# Altium footprint library electronpowered.PcbLib: 83 footprints (part 3 of 6)
Each footprint in its own frame and in the unit in brackets; x right, y up, seen from the top. Pads: shape width x height; smd on the part's side, far side on the other; paste and mask are expansions set on the pad; w line width, h text height; cw(c..) or ccw(c..) is an arc to the next point about the centre after c.
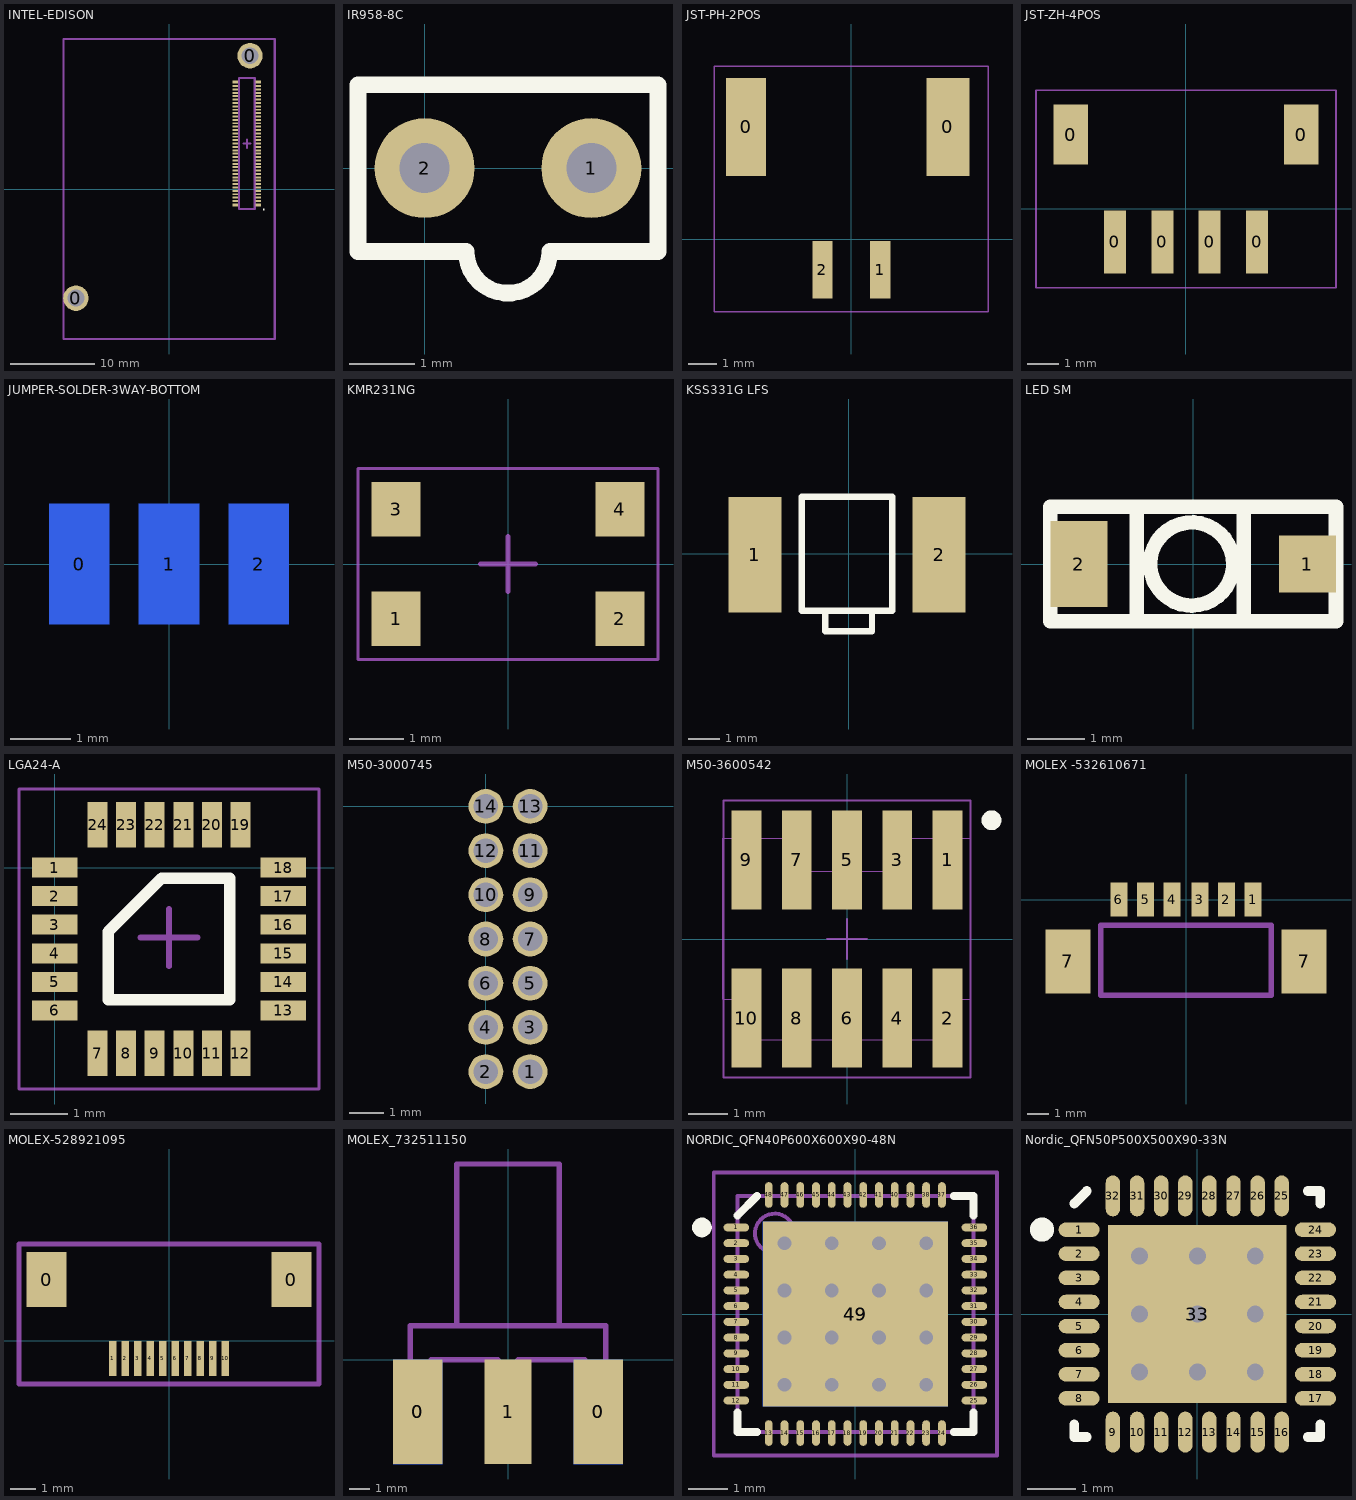
[diagram p2: the footprints below, top view; thin cyan lines are the x and y axes]

## INTEL-EDISON [mm] "Intel Edison SBC"
height 5
pads (76):
  round 3 hole 2: 0(-11.03,-12.92) 0(9.57,15.77)
  rect 0.66x0.23 smd: 1(10.555,-1.42) 2(7.845,-1.42) 3(10.555,-1.02) 4(7.845,-1.02) 5(10.555,-0.62) 6(7.845,-0.62) 7(10.555,-0.22) 8(7.845,-0.22) 9(10.555,0.18) 10(7.845,0.18) 11(10.555,0.58) 12(7.845,0.58) 13(10.555,0.98) 14(7.845,0.98) 15(10.555,1.38) 16(7.845,1.38) 17(10.555,1.78) 18(7.845,1.78) 19(10.555,2.18) 20(7.845,2.18) 21(10.555,2.58) 22(7.845,2.58) 23(10.555,2.98) 24(7.845,2.98) 25(10.555,3.38) 26(7.845,3.38) 27(10.555,3.78) 28(7.845,3.78) 29(10.555,4.18) 30(7.845,4.18) 31(10.555,4.58) 32(7.845,4.58) 33(10.555,4.98) 34(7.845,4.98) 35(10.555,5.38) 36(7.845,5.38) 37(10.555,5.78) 38(7.845,5.78) 39(10.555,6.18) 40(7.845,6.18) 41(10.555,6.58) 42(7.845,6.58) 43(10.555,6.98) 44(7.845,6.98) 45(10.555,7.38) 46(7.845,7.38) 47(10.555,7.78) 48(7.845,7.78) 49(10.555,8.18) 50(7.845,8.18) 51(10.555,8.58) 52(7.845,8.58) 53(10.555,8.98) 54(7.845,8.98) 55(10.555,9.38) 56(7.845,9.38) 57(10.555,9.78) 58(7.845,9.78) 59(10.555,10.18) 60(7.845,10.18) 61(10.555,10.58) 62(7.845,10.58) 63(10.555,10.98) 64(7.845,10.98) 65(10.555,11.38) 66(7.845,11.38) 67(10.555,11.78) 68(7.845,11.78) 69(10.555,12.18) 70(7.845,12.18)
  rect 0.66x0.35 smd: ""(7.845,-1.895) ""(7.845,12.655) ""(10.555,-1.895) ""(10.555,12.655)
Top Overlay:
  circle w0.1: c11.2,-2.42 r0.05
Drill Guide:
  rectangle: 6.72,-17.75 12.5,-4.64
Top Comp Body:
  lines w0.254: -12.5,-17.75 12.5,-17.75 12.5,17.75 -12.5,17.75 -12.5,-17.75 ; 8.275,-2.38 8.275,13.14 10.125,13.14 10.125,-2.38 8.275,-2.38
Top Courtyard:
  lines w0.254: 8.8,5.38 9.2,5.38 ; 9.2,4.86 9.2,5.38 ; 9.2,5.86 9.2,5.38 ; 9.6,5.38 9.2,5.38
3D body "DF40C(2.0)-70DS.stp": height 1.9, standoff -0.05, extent 7.51,-2.935 10.89,13.665

## IR958-8C [mil]
height 230
pads (2):
  round 60 hole 30: 1(100,0) 2(0,0)
Top Overlay:
  lines w10: -40,-50 -40,50 50,50 140,50 140,-50 75,-50 cw(c50,-50) 25,-50 -40,-50

## JST-PH-2POS [mm] "JST-PH 2POS SM R/A 2.0mm"
pads (4):
  rect 1.4x3.4 smd: 0(-3.65,3.9)
  rect 1.5x3.4 smd: 0(3.35,3.9)
  rect 0.7x2 smd: 1(1,-1.05) 2(-1,-1.05)
Top Courtyard:
  lines w0.05: -4.75,-2.5 -4.75,6 4.75,6 4.75,-2.5 -4.75,-2.5

## JST-ZH-4POS [mm] "JST 4POS SM R/A 1.5mm"
pads (6):
  rect 1.1x1.9 smd: 0(-3.65,2.35) 0(3.65,2.35)
  rect 0.7x2 smd: 0(-2.25,-1.05) 0(-0.75,-1.05) 0(0.75,-1.05) 0(2.25,-1.05)
Top Courtyard:
  lines w0.05: -4.75,-2.5 4.75,-2.5 4.75,3.75 -4.75,3.75 -4.75,-2.5

## JUMPER-SOLDER-3WAY-BOTTOM [mm] "3WAY SOLDER JUMPER BOTTOM LAYER"
pads (3):
  rect 1x2 smd far side: 0(-1.5,0) 1(0,0) 2(1.5,0)
Bottom Overlay:
  lines w0.254: -2.5,-1.5 -2.5,1.5 2.5,1.5 2.5,-1.5 -2.5,-1.5

## KMR231NG [mm] "PB SW SM TOP"
height 1.9
pads (4):
  rect 0.9x1 smd: 1(-2.05,-1) 2(2.05,-1) 3(-2.05,1) 4(2.05,1)
Top Courtyard:
  lines w0.05: -2.75,-1.75 2.75,-1.75 2.75,1.75 -2.75,1.75 -2.75,-1.75
  lines w0.1: -0.5,0 0.5,0 ; 0,-0.5 0,0.5

## KSS331G LFS [mm] "C & K COMPONENTS - KSS331G LFS - TACT SWITCH, SIDE ACTUATED, LOW"
pads (2):
  rect 1.7x3.7 smd: 1(-3,-0.025) 2(2.9,-0.025)
Top Overlay:
  lines w0.2: -0.75,-1.825 -0.75,-2.475 0.75,-2.475 0.75,-1.825 ; -1.5,-1.825 -1.5,1.825 1.4,1.825 1.4,-1.825 -1.5,-1.825

## LED SM [mm]
pads (2):
  rect 1x1 smd: 1(2,0)
  rect 1x1.5 smd: 2(-2,0)
Top Overlay:
  lines w0.254: -0.991,1 -0.991,-1 0.864,-1 0.889,-0.975 0.889,1 ; -0.099,-0.724 cw(c-0.025,0) -0.025,-0.728 ; -2.5,-1 -2.5,1 2.5,1 2.5,-1 -2.5,-1
3D body: height 4, standoff 0, extent -0.498,-0.49 0.498,0.508
3D body: height 2.65, standoff 0, extent -1.524,-1.016 1.397,1.016

## LGA24-A [mm]
pads (24):
  rect 0.8x0.35 smd mask+0.051: 1(0,0) 2(0,-0.5) 3(0,-1) 4(0,-1.5) 5(0,-2) 6(0,-2.5) 13(4,-2.5) 14(4,-2) 15(4,-1.5) 16(4,-1)
  rect 0.35x0.8 smd mask+0.051: 7(0.75,-3.25) 8(1.25,-3.25) 9(1.75,-3.25) 10(2.25,-3.25) 11(2.75,-3.25) 12(3.25,-3.25) 19(3.25,0.75) 20(2.75,0.75) 21(2.25,0.75) 22(1.75,0.75) 23(1.25,0.75) 24(0.75,0.75)
  rect 0.8x0.35 smd paste+0 mask+0.051: 17(4,-0.5) 18(4,0)
Top Overlay:
  lines w0.2: 0.935,-2.315 3.065,-2.315 3.065,-0.185 1.87,-0.185 0.935,-1.12 0.935,-2.315
Top Courtyard:
  lines w0.05: -0.625,-3.875 4.625,-3.875 4.625,1.375 -0.625,1.375 -0.625,-3.875
  lines w0.1: 1.5,-1.225 2.5,-1.225 ; 2,-1.725 2,-0.725

## M50-3000745 [mm] "14 POS 1.27MM TH SKT/HDR"
pads (14):
  round 1 hole 0.7: 1(1.27,-7.62) 2(0,-7.62) 3(1.27,-6.35) 4(0,-6.35) 5(1.27,-5.08) 6(0,-5.08) 7(1.27,-3.81) 8(0,-3.81) 9(1.27,-2.54) 10(0,-2.54) 11(1.27,-1.27) 12(0,-1.27) 13(1.27,0) 14(0,0)

## M50-3600542 [mm] "1.27mm pitch, 10 pin, terminal strip; vertical, SMT"
height 4
pads (10):
  rect 0.75x2.5 smd mask+0: 1(2.54,2) 2(2.54,-2) 3(1.27,2) 4(1.27,-2) 5(0,2) 6(0,-2) 7(-1.27,2) 8(-1.27,-2) 9(-2.54,2) 10(-2.54,-2)
Top Overlay:
  circle w0.25: c3.65,3 r0.125
Bottom Dimension:
  lines w0.001: -3.137,-1.524 -2.54,-1.524 -2.54,-2.54 2.54,-2.54 2.54,-1.524 3.137,-1.524 3.137,2.54 1.079,2.54 1.079,1.714 -1.079,1.714 -1.079,2.54 -3.137,2.54 -3.137,-1.524
Top Courtyard:
  lines w0.05: -0.5,0 0.5,0 ; 0,-0.5 0,0.5 ; -3.125,-3.5 -3.125,3.5 3.125,3.5 3.125,-3.5 -3.125,-3.5

## MOLEX -532610671 [mm]
pads (8):
  rect 0.8x1.6 smd: 1(3.15,0) 2(1.9,0) 3(0.65,0) 4(-0.65,0) 5(-1.9,0) 6(-3.15,0)
  rect 2.1x3 smd: 7(-5.55,-2.9) 7(5.55,-2.9)
Top Comp Body:
  lines w0.254: -4,-4.5 -4,-1.2 4,-1.2 4,-4.5 -4,-4.5
3D body "532610671.stp": height 3.4, standoff 0, extent -6.325,-4.6 6.325,0.6

## MOLEX-528921095 [mm] "CONN FPC 10POS 0.5MM"
height 2.54
pads (12):
  rect 1.6x2.2 smd: 0(-4.9,2.45) 0(4.9,2.45)
  rect 0.3x1.4 smd: 1(-2.25,-0.7) 2(-1.75,-0.7) 3(-1.25,-0.7) 4(-0.75,-0.7) 5(-0.25,-0.7) 6(0.25,-0.7) 7(0.75,-0.7) 8(1.25,-0.7) 9(1.75,-0.7) 10(2.25,-0.7)
Top Courtyard:
  lines w0.2: -6,-1.725 -6,3.875 6,3.875 6,-1.725 -6,-1.725

## MOLEX_732511150 [mm] "SMA EDGE"
pads (5):
  rect 2.4x5.08 smd: 0(-4.39,-2.54) 0(4.39,-2.54)
  rect 2.4x5.08 smd far side: 0(-4.39,-2.54) 0(4.39,-2.54)
  rect 2.29x5.08 smd: 1(0,-2.54)
Top Comp Body:
  lines w0.254: -2.5,1.68 -2.5,9.53 0,9.53 2.5,9.53 2.5,1.68 ; -4.765,-4.75 -4.765,1.65 4.765,1.65 4.765,-4.75 3.75,-4.75 3.75,0 0.5,0 0.5,-4.5 -0.5,-4.5 -0.5,0 -3.75,0 -3.75,-4.75 -4.765,-4.75

## NORDIC_QFN40P600X600X90-48N [mm] "Nordic QFN 40 pin footprint for nNRF51822"
pads (50):
  oval 0.65x0.2 smd: 1(-3.025,2.2) 2(-3.025,1.8) 3(-3.025,1.4) 4(-3.025,1) 5(-3.025,0.6) 6(-3.025,0.2) 7(-3.025,-0.2) 8(-3.025,-0.6) 9(-3.025,-1) 10(-3.025,-1.4) 11(-3.025,-1.8) 12(-3.025,-2.2) 25(3.025,-2.2) 26(3.025,-1.8) 27(3.025,-1.4) 28(3.025,-1) 29(3.025,-0.6) 30(3.025,-0.2) 31(3.025,0.2) 32(3.025,0.6) 33(3.025,1) 34(3.025,1.4) 35(3.025,1.8) 36(3.025,2.2)
  oval 0.2x0.65 smd: 13(-2.2,-3.025) 14(-1.8,-3.025) 15(-1.4,-3.025) 16(-1,-3.025) 17(-0.6,-3.025) 18(-0.2,-3.025) 19(0.2,-3.025) 20(0.6,-3.025) 21(1,-3.025) 22(1.4,-3.025) 23(1.8,-3.025) 24(2.2,-3.025) 37(2.2,3.025) 38(1.8,3.025) 39(1.4,3.025) 40(1,3.025) 41(0.6,3.025) 42(0.2,3.025) 43(-0.2,3.025) 44(-0.6,3.025) 45(-1,3.025) 46(-1.4,3.025) 47(-1.8,3.025) 48(-2.2,3.025)
  rect 4.7x4.7 smd: 49(0,0)
  rect 4.7x4.7 smd far side: 49(0,0)
via 1.8,-1.8 diameter 0.8 hole 0.35
via 0.6,-1.8 diameter 0.8 hole 0.35
via -0.6,-1.8 diameter 0.8 hole 0.35
via -1.8,-1.8 diameter 0.8 hole 0.35
via 1.8,-0.6 diameter 0.8 hole 0.35
via 0.6,-0.6 diameter 0.8 hole 0.35
via -0.6,-0.6 diameter 0.8 hole 0.35
via -1.8,-0.6 diameter 0.8 hole 0.35
via 1.8,0.6 diameter 0.8 hole 0.35
via 0.6,0.6 diameter 0.8 hole 0.35
via -0.6,0.6 diameter 0.8 hole 0.35
via -1.8,0.6 diameter 0.8 hole 0.35
via 1.8,1.8 diameter 0.8 hole 0.35
via 0.6,1.8 diameter 0.8 hole 0.35
via -0.6,1.8 diameter 0.8 hole 0.35
via -1.8,1.8 diameter 0.8 hole 0.35
Top Overlay:
  circle w0.25: c-3.9,2.2 r0.125
  lines w0.2: -3,-2.5 -3,-3 -2.5,-3 ; -3,2.5 -2.5,3 ; 2.5,-3 3,-3 3,-2.5 ; 2.5,3 3,3 3,2.5
Top Comp Body:
  circle w0.1: c-2.05,2.05 r0.5
  lines w0.1: -3,-3 3,-3 3,3 -3,3 -3,-3
Top Courtyard:
  lines w0.1: -0.5,0 0.5,0 ; 0,-0.5 0,0.5 ; -3.6,-3.6 3.6,-3.6 3.6,3.6 -3.6,3.6 -3.6,-3.6
3D body: height 0.9, standoff 0, extent -3,-3 3,3

## Nordic_QFN50P500X500X90-33N [mm]
pads (33):
  oval 0.85x0.3 smd mask+0.076: 1(-2.45,1.75) 2(-2.45,1.25) 3(-2.45,0.75) 4(-2.45,0.25) 5(-2.45,-0.25) 6(-2.45,-0.75) 7(-2.45,-1.25) 8(-2.45,-1.75) 17(2.45,-1.75) 18(2.45,-1.25) 19(2.45,-0.75) 20(2.45,-0.25) 21(2.45,0.25) 22(2.45,0.75) 23(2.45,1.25) 24(2.45,1.75)
  oval 0.3x0.85 smd mask+0.076: 9(-1.75,-2.45) 10(-1.25,-2.45) 11(-0.75,-2.45) 12(-0.25,-2.45) 13(0.25,-2.45) 14(0.75,-2.45) 15(1.25,-2.45) 16(1.75,-2.45) 25(1.75,2.45) 26(1.25,2.45) 27(0.75,2.45) 28(0.25,2.45) 29(-0.25,2.45) 30(-0.75,2.45) 31(-1.25,2.45) 32(-1.75,2.45)
  rect 3.7x3.7 smd mask+0: 33(0,0)
via 1.2,1.2 diameter 0.8 hole 0.35
via 1.2,0 diameter 0.8 hole 0.35
via 1.2,-1.2 diameter 0.8 hole 0.35
via 0,-1.2 diameter 0.8 hole 0.35
via -1.2,-1.2 diameter 0.8 hole 0.35
via -1.2,0 diameter 0.8 hole 0.35
via -1.2,1.2 diameter 0.8 hole 0.35
via 0,1.2 diameter 0.8 hole 0.35
via 0,0 diameter 0.8 hole 0.35
Top Overlay:
  circle w0.25: c-3.22,1.75 r0.125
  lines w0.2: -2.55,-2.29 -2.55,-2.55 -2.29,-2.55 ; -2.55,2.29 -2.29,2.55 ; 2.29,-2.55 2.55,-2.55 2.55,-2.29 ; 2.29,2.55 2.55,2.55 2.55,2.29